# Altium footprint library PCB_Screen.PcbLib: 6 footprints
Each footprint in its own frame and in the unit in brackets; x right, y up, seen from the top. Pads: shape width x height; smd on the part's side, far side on the other; paste and mask are expansions set on the pad; w line width, h text height; cw(c..) or ccw(c..) is an arc to the next point about the centre after c.
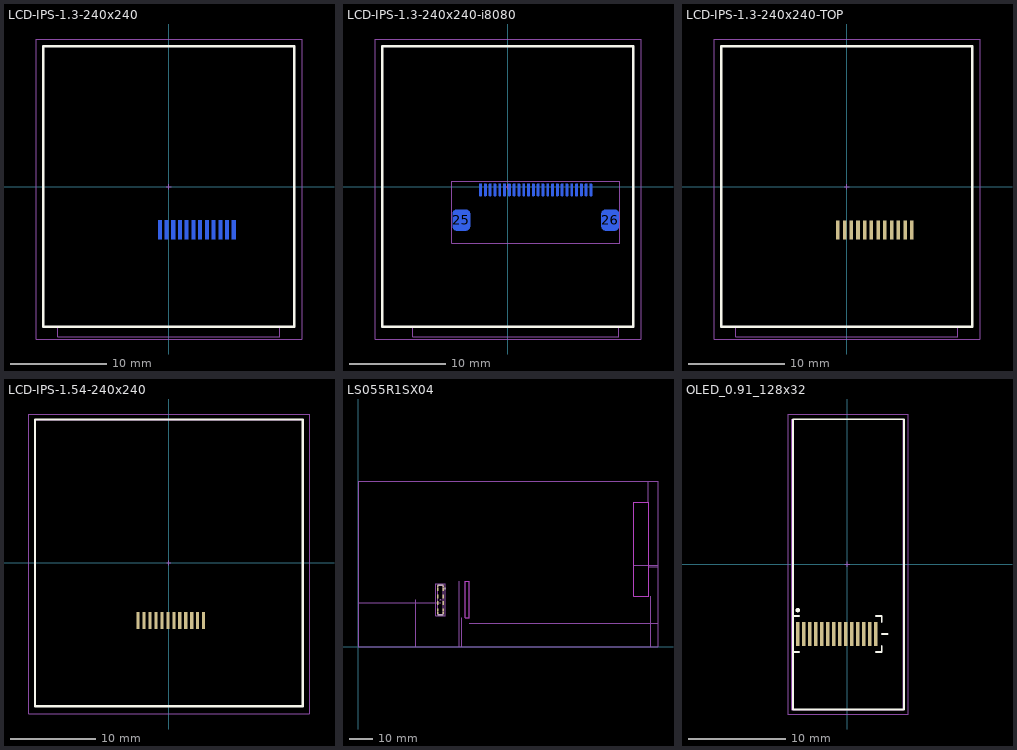
[diagram p0: the footprints below, top view; thin cyan lines are the x and y axes]

## LCD-IPS-1.3-240x240 [mm]
pads (12):
  rect 0.37x2 smd far side: 1(6.775,-4.512) 2(6.075,-4.512) 3(5.375,-4.512) 4(4.675,-4.512) 5(3.975,-4.512) 6(3.275,-4.512) 7(2.575,-4.512) 8(1.875,-4.512) 9(1.175,-4.512) 10(0.475,-4.512) 11(-0.225,-4.512) 12(-0.925,-4.512)
Top Overlay:
  lines w0.254: -13.08,-14.604 13.08,-14.604 13.08,14.616 -13.08,14.616 -13.08,-14.604
Top Assembly (Mech13):
  lines w0.051: -11.558,-14.604 -11.558,-15.62 11.558,-15.62 11.558,-14.604 ; -0.252,0 0.254,0 ; 0,-0.254 0,0.254 ; -13.08,-14.604 -13.08,14.616 13.08,14.616 13.08,-14.604 -13.08,-14.604
Top Component:
  lines w0.051: -13.78,-15.874 -13.78,15.368 13.844,15.368 13.844,-15.874 -13.78,-15.874
  text ".Designator" at -0.913,-0.714 h2.54
3D body: height 1.5, standoff 0, extent -13.08,-14.604 13.08,14.616

## LCD-IPS-1.3-240x240-i8080 [mil]
pads (26):
  rrect50% 10x50 smd far side: 1(341.38,-13.66) 2(321.69,-13.66) 3(302.01,-13.66) 4(282.32,-13.66) 5(262.64,-13.66) 6(242.95,-13.66) 7(223.27,-13.66) 8(203.58,-13.66) 9(183.9,-13.66) 10(164.21,-13.66) 11(144.53,-13.66) 12(124.84,-13.66) 13(105.16,-13.66) 14(85.47,-13.66) 15(65.79,-13.66) 16(46.1,-13.66) 17(26.42,-13.66) 18(6.73,-13.66) 19(-12.95,-13.66) 20(-32.64,-13.66) 21(-52.32,-13.66) 22(-72.01,-13.66) 23(-91.69,-13.66) 24(-111.38,-13.66)
  rrect50% 72x86 smd far side: 25(-190,-137.64) 26(420,-137.64)
Top Overlay:
  lines w10: -514.96,-574.96 514.96,-574.96 514.96,575.43 -514.96,575.43 -514.96,-574.96
Bottom Overlay:
  circle w10: c370,-2.64 r5
  lines w10: -190,-192.64 -190,-227.64 420,-227.64 420,-192.64 ; -190,-82.64 -190,-27.64 -130,-27.64 ; 360,-27.64 420,-27.64 420,-82.64
Top Assembly (Mech13):
  lines w2: -455.04,-574.96 -390,-574.96 -390,-614.96 455.04,-614.96 455.04,-574.96 ; -9.92,0 10,0 ; 0,-10 0,10
  lines w2.01: -514.96,-574.96 -514.96,575.43 514.96,575.43 514.96,-574.96 -514.96,-574.96
Top Component:
  lines w2: -542.52,-624.96 545.04,-624.96 545.04,605.04 -542.52,605.04 -542.52,-624.96
  text ".Designator" at -35.96,-28.1 h100
Bottom Component:
  lines w2: -230,-232.64 -230,22.36 460,22.36 460,-232.64 -230,-232.64
3D body: height 59.06, standoff 0, extent -514.96,-574.96 514.96,575.43
3D body "ffc_fpc_affc20-24-050-shb-t.stp": height 81.71, standoff -1.16, extent -229.49,-232.32 459.49,-22.25

## LCD-IPS-1.3-240x240-TOP [mm]
pads (12):
  rect 0.37x2 smd: 1(6.775,-4.512) 2(6.075,-4.512) 3(5.375,-4.512) 4(4.675,-4.512) 5(3.975,-4.512) 6(3.275,-4.512) 7(2.575,-4.512) 8(1.875,-4.512) 9(1.175,-4.512) 10(0.475,-4.512) 11(-0.225,-4.512) 12(-0.925,-4.512)
Top Overlay:
  lines w0.254: -13.08,-14.604 -13.08,14.616 13.08,14.616 13.08,-14.604 -13.08,-14.604
Top Assembly (Mech13):
  lines w0.051: -11.558,-14.604 -11.558,-15.62 11.558,-15.62 11.558,-14.604 ; -0.252,0 0.254,0 ; 0,-0.254 0,0.254 ; -13.08,-14.604 13.08,-14.604 13.08,14.616 -13.08,14.616 -13.08,-14.604
Top Component:
  lines w0.051: -13.78,-15.874 13.844,-15.874 13.844,15.368 -13.78,15.368 -13.78,-15.874
  text ".Designator" at -0.913,-0.714 h2.54
3D body: height 1.5, standoff 0, extent -13.08,-14.604 13.08,14.616

## LCD-IPS-1.54-240x240 [mm]
pads (12):
  rect 0.37x2 smd: 1(4.095,-6.768) 2(3.395,-6.768) 3(2.695,-6.768) 4(1.995,-6.768) 5(1.295,-6.768) 6(0.595,-6.768) 7(-0.105,-6.768) 8(-0.805,-6.768) 9(-1.505,-6.768) 10(-2.205,-6.768) 11(-2.905,-6.768) 12(-3.605,-6.768)
Top Overlay:
  lines w0.254: -15.76,-16.86 -15.76,16.86 15.76,16.86 15.76,-16.86 -15.76,-16.86
Top Assembly (Mech13):
  lines w0.051: -0.254,0 0.254,0 ; 0,-0.254 0,0.254 ; -15.76,-16.86 -15.76,16.86 15.76,16.86 15.76,-16.86 -15.76,-16.86
Top Component:
  lines w0.051: -16.46,-17.78 -16.46,17.526 16.51,17.526 16.51,-17.78 -16.46,-17.78
  text ".Designator" at -1.016,-0.762 h2.54
3D body: height 1.5, standoff 0, extent -15.76,-16.86 15.76,16.794

## LS055R1SX04 [mm]
pads (54):
  rect 0.5x0.22 smd: 1(36.56,24.9) 2(34.16,24.9) 3(36.56,24.5) 4(34.16,24.5) 5(36.56,24.1) 6(34.16,24.1) 7(36.56,23.7) 8(34.16,23.7) 9(36.56,23.3) 10(34.16,23.3) 11(36.56,22.9) 12(34.16,22.9) 13(36.56,22.5) 14(34.16,22.5) 15(36.56,22.1) 16(34.16,22.1) 17(36.56,21.7) 18(34.16,21.7) 19(36.56,21.3) 20(34.16,21.3) 21(36.56,20.9) 22(34.16,20.9) 23(36.56,20.5) 24(34.16,20.5) 25(36.56,20.1) 26(34.16,20.1) 27(36.56,19.7) 28(34.16,19.7) 29(36.56,19.3) 30(34.16,19.3) 31(36.56,18.9) 32(34.16,18.9) 33(36.56,18.5) 34(34.16,18.5) 35(36.56,18.1) 36(34.16,18.1) 37(36.56,17.7) 38(34.16,17.7) 39(36.56,17.3) 40(34.16,17.3) 41(36.56,16.9) 42(34.16,16.9) 43(36.56,16.5) 44(34.16,16.5) 45(36.56,16.1) 46(34.16,16.1) 47(36.56,15.7) 48(34.16,15.7) 49(36.56,15.3) 50(34.16,15.3)
  rect 0.55x0.75 smd: 51(36.56,25.725) 52(34.16,25.725) 53(34.16,14.475) 54(36.56,14.475)
Top Overlay:
  circle w0.254: c37.36,24.9 r0.1
  lines w0.2: 34.16,13.7 36.56,13.7 ; 34.16,26.5 36.56,26.5
Keep-Out Layer:
  lines w0.051: 45.847,12.484 47.625,12.484 47.625,28.084 45.847,28.084 45.847,12.484 ; 118.11,21.54 124.523,21.54 124.523,61.85 118.11,61.85 118.11,21.54
Mechanical 1:
  lines w0.051: 45.847,12.484 45.847,28.084 47.625,28.084 47.625,12.484 45.847,12.484 ; 118.11,21.54 118.11,61.85 124.523,61.85 124.523,21.54 118.11,21.54
Top Assembly (Mech13):
  lines w0.051: 35.106,20.1 35.614,20.1 ; 35.36,19.846 35.36,20.354 ; 34.11,13.8 36.61,13.8 36.61,26.4 34.11,26.4 34.11,13.8
Top Component:
  region: 37.36,26.9 37.36,26.646 37.233,26.646 37.208,26.646 37.161,26.665 37.125,26.701 37.106,26.748 37.106,26.773 37.106,26.9
  lines w0.051: 33.36,13.3 37.36,13.3 37.36,26.9 33.36,26.9 33.36,13.3
  text ".Designator" at 34.96,20.9 h2.03
Bottom Component:
  lines w0.051: 0,18.796 35.36,18.796 ; 24.638,0 24.638,20.1 ; 43.307,-0.016 43.307,28.084 ; 44.45,-0.016 44.45,12.484 ; 47.625,10.017 128.54,10.017 ; 118.11,34.917 128.524,34.917 ; 124.46,61.85 124.46,70.85 ; 124.524,34.274 128.524,34.274 ; 125.349,0 125.349,21.54 ; 0,0 0,70.85 128.54,70.85 128.54,0 0,0 ; 45.847,12.484 45.847,28.084 47.625,28.084 47.625,12.484 45.847,12.484 ; 118.11,21.54 118.11,61.85 124.523,61.85 124.523,21.54 118.11,21.54
Bottom Assembly (Mech16):
  lines w0.051: 0,0 128.54,0 128.54,70.85 0,70.85 0,0
3D body: height 0.85, standoff 0, extent 0,0 128.54,70.85
3D body: height 1.45, standoff 0.87, extent 0,0 128.54,70.85

## OLED_0.91_128x32 [mm]
height 2.65
pads (14):
  rect 0.35x2.5 smd: 1(-5.13,-7.194) 2(-4.51,-7.194) 3(-3.89,-7.194) 4(-3.27,-7.194) 5(-2.65,-7.194) 6(-2.03,-7.194) 7(-1.41,-7.194) 8(-0.79,-7.194) 9(-0.17,-7.194) 10(0.45,-7.194) 11(1.07,-7.194) 12(1.69,-7.194) 13(2.31,-7.194) 14(2.93,-7.194)
Top Overlay:
  circle w0.254: c-5.13,-4.714 r0.1
  lines w0.2: -5.638,-8.434 -5.638,-9.054 -5.018,-9.054 ; -5.638,-5.954 -5.638,-5.334 -5.018,-5.334 ; 2.93,-9.054 3.55,-9.054 3.55,-8.434 ; 2.93,-5.334 3.55,-5.334 3.55,-5.954 ; 3.55,-7.194 4.17,-7.194 ; -5.638,-15 -5.638,15 5.862,15 5.862,-15 -5.638,-15
Top Assembly (Mech13):
  lines w0.051: -0.254,0 0.254,0 ; 0,-0.254 0,0.254 ; -5.75,-15 5.75,-15 5.75,15 -5.75,15 -5.75,-15
Top Component:
  lines w0.051: -6.146,-15.449 -6.146,15.539 6.3,15.539 6.3,-15.449 -6.146,-15.449
3D body: height 1.2, standoff 0, extent -5.75,-15 5.75,15